# Altium schematic symbol library AM3352.SchLib: 2 symbols
Pins are listed as number, name and electrical type; pins without a type are passive.

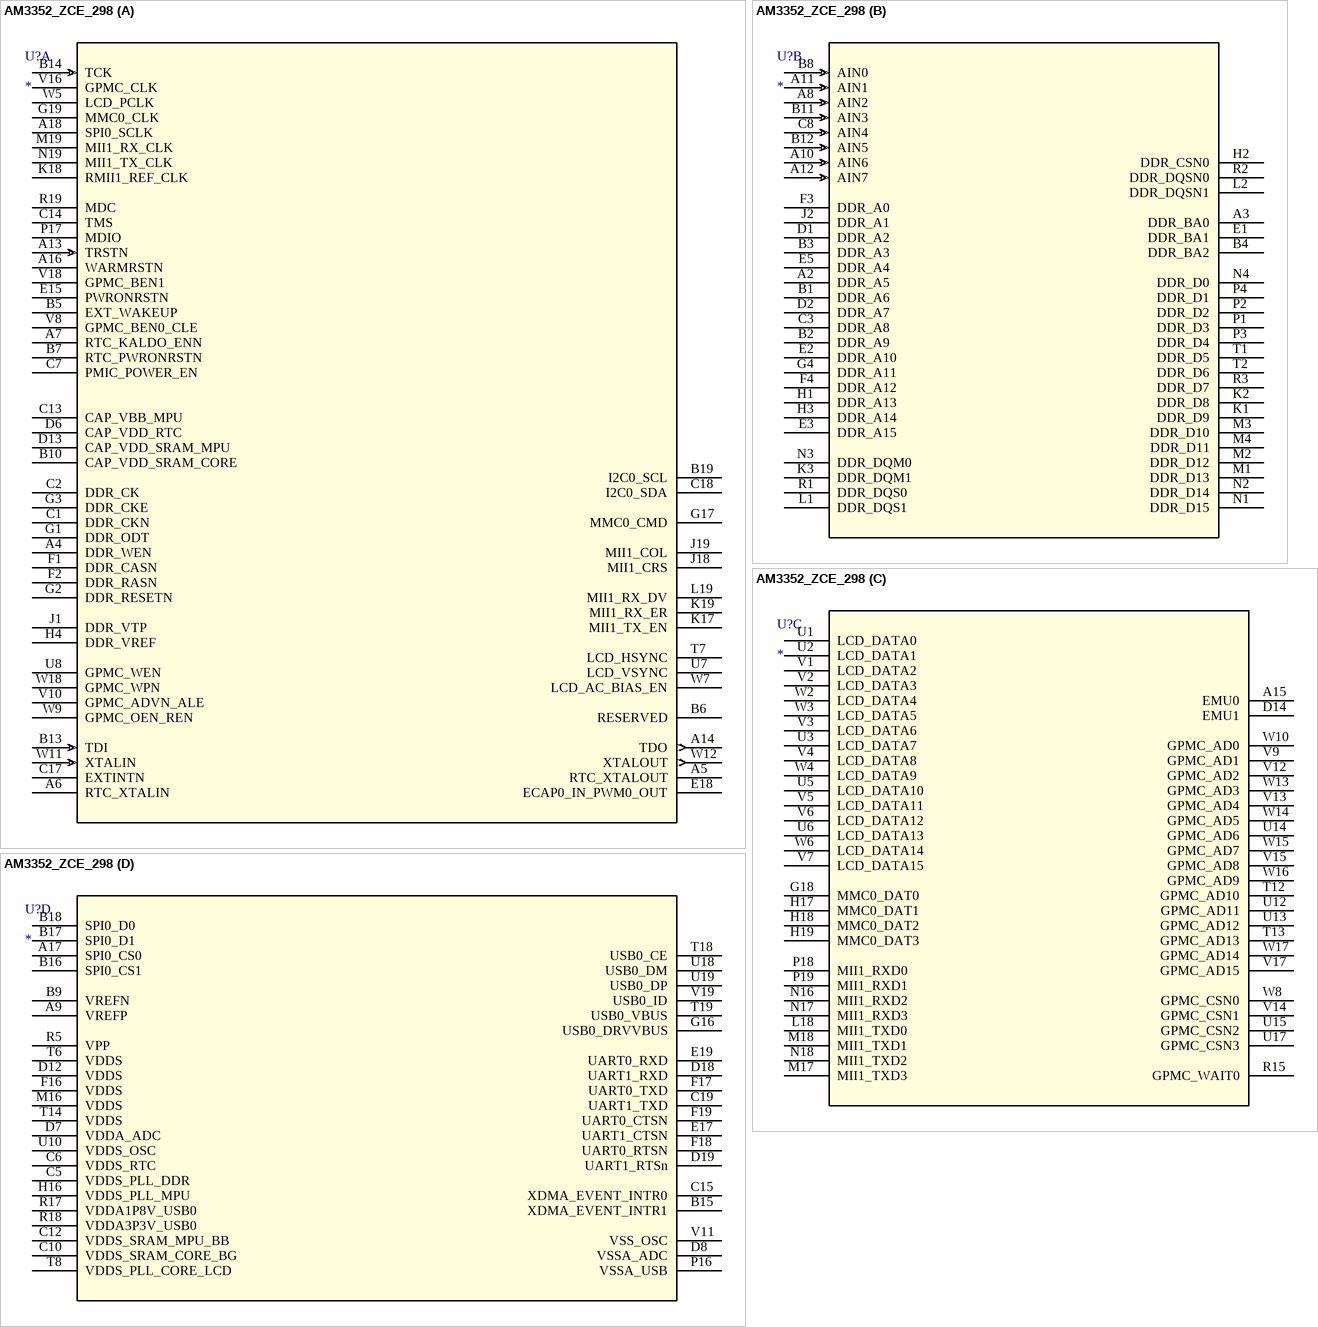
[diagram p0: symbol AM3352_ZCE_298]

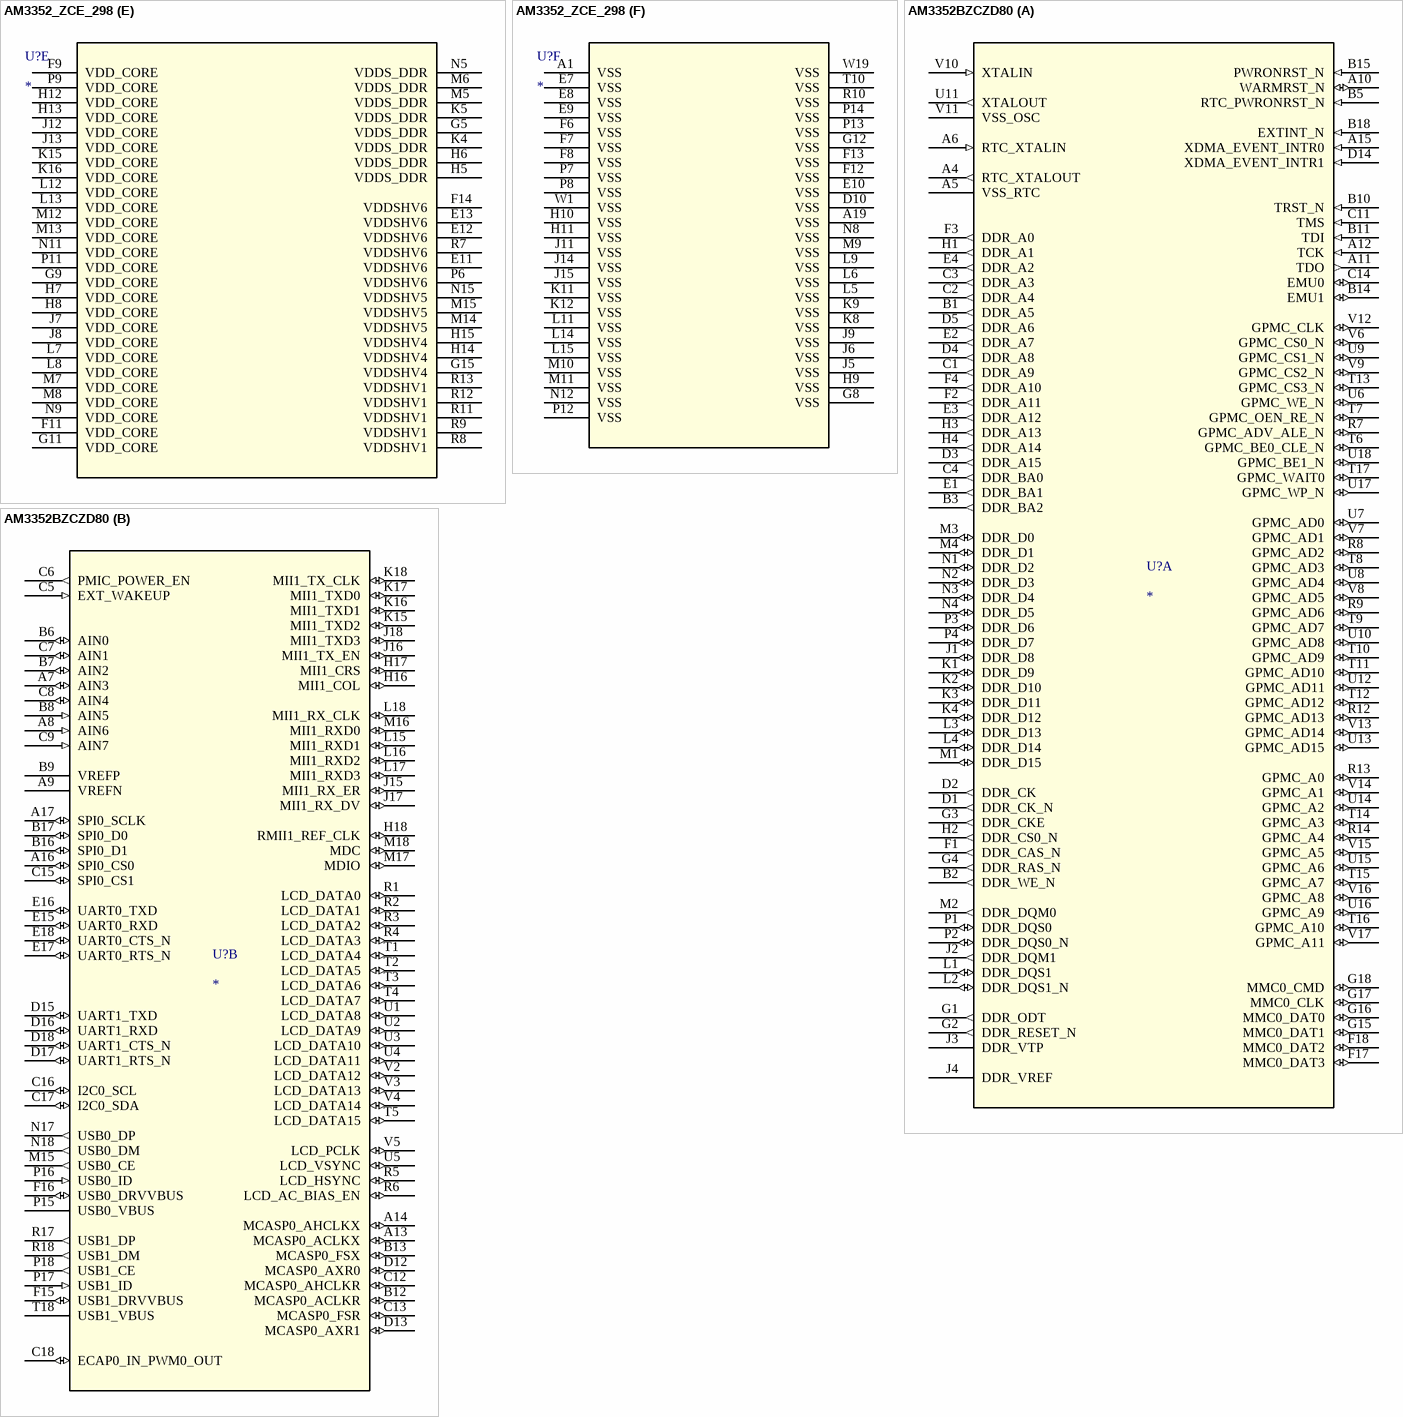
[diagram p1: symbols AM3352_ZCE_298 to AM3352BZCZD80]

## AM3352_ZCE_298
designator U?
AM335x Sitara™ Processors; GENERIC_PART_NUMBER: AM3352; Manufacturer: Texas Instruments; PACKAGE_DESIGNATOR: ZCE; PIN_COUNT: 298; FAMILY_NAME: ARM335x ARM Cortex-A8; INDUSTRY_STD_PKG_TYPE: NFBGA; Datasheet_URL: http://www.ti.com/lit/gpn/AM3352; RefDes: RefDes; Type: Type; Value: Value
footprint ZCE298
part A pins: A4 DDR_WEN, A5 RTC_XTALOUT, A6 RTC_XTALIN, A7 RTC_KALDO_ENN, A13 TRSTN (in), A14 TDO (out), A16 WARMRSTN, A18 SPI0_SCLK, B5 EXT_WAKEUP, B6 RESERVED, B7 RTC_PWRONRSTN, B10 CAP_VDD_SRAM_CORE, B13 TDI (in), B14 TCK (in), B19 I2C0_SCL, C1 DDR_CKN, C2 DDR_CK, C7 PMIC_POWER_EN, C13 CAP_VBB_MPU, C14 TMS, C17 EXTINTN, C18 I2C0_SDA, D6 CAP_VDD_RTC, D13 CAP_VDD_SRAM_MPU, E15 PWRONRSTN, E18 ECAP0_IN_PWM0_OUT, F1 DDR_CASN, F2 DDR_RASN, G1 DDR_ODT, G2 DDR_RESETN, G3 DDR_CKE, G17 MMC0_CMD, G19 MMC0_CLK, H4 DDR_VREF, J1 DDR_VTP, J18 MII1_CRS, J19 MII1_COL, K17 MII1_TX_EN, K18 RMII1_REF_CLK, K19 MII1_RX_ER, L19 MII1_RX_DV, M19 MII1_RX_CLK, N19 MII1_TX_CLK, P17 MDIO, R19 MDC, T7 LCD_HSYNC, U7 LCD_VSYNC, U8 GPMC_WEN, V8 GPMC_BEN0_CLE, V10 GPMC_ADVN_ALE, V16 GPMC_CLK, V18 GPMC_BEN1, W5 LCD_PCLK, W7 LCD_AC_BIAS_EN, W9 GPMC_OEN_REN, W11 XTALIN (in), W12 XTALOUT (out), W18 GPMC_WPN
part B pins: A2 DDR_A5, A3 DDR_BA0, A8 AIN2 (in), A10 AIN6 (in), A11 AIN1 (in), A12 AIN7 (in), B1 DDR_A6, B2 DDR_A9, B3 DDR_A3, B4 DDR_BA2, B8 AIN0 (in), B11 AIN3 (in), B12 AIN5 (in), C3 DDR_A8, C8 AIN4 (in), D1 DDR_A2, D2 DDR_A7, E1 DDR_BA1, E2 DDR_A10, E3 DDR_A15, E5 DDR_A4, F3 DDR_A0, F4 DDR_A12, G4 DDR_A11, H1 DDR_A13, H2 DDR_CSN0, H3 DDR_A14, J2 DDR_A1, K1 DDR_D9, K2 DDR_D8, K3 DDR_DQM1, L1 DDR_DQS1, L2 DDR_DQSN1, M1 DDR_D13, M2 DDR_D12, M3 DDR_D10, M4 DDR_D11, N1 DDR_D15, N2 DDR_D14, N3 DDR_DQM0, N4 DDR_D0, P1 DDR_D3, P2 DDR_D2, P3 DDR_D4, P4 DDR_D1, R1 DDR_DQS0, R2 DDR_DQSN0, R3 DDR_D7, T1 DDR_D5, T2 DDR_D6
part C pins: A15 EMU0, D14 EMU1, G18 MMC0_DAT0, H17 MMC0_DAT1, H18 MMC0_DAT2, H19 MMC0_DAT3, L18 MII1_TXD0, M17 MII1_TXD3, M18 MII1_TXD1, N16 MII1_RXD2, N17 MII1_RXD3, N18 MII1_TXD2, P18 MII1_RXD0, P19 MII1_RXD1, R15 GPMC_WAIT0, T12 GPMC_AD10, T13 GPMC_AD13, U1 LCD_DATA0, U2 LCD_DATA1, U3 LCD_DATA7, U5 LCD_DATA10, U6 LCD_DATA13, U12 GPMC_AD11, U13 GPMC_AD12, U14 GPMC_AD6, U15 GPMC_CSN2, U17 GPMC_CSN3, V1 LCD_DATA2, V2 LCD_DATA3, V3 LCD_DATA6, V4 LCD_DATA8, V5 LCD_DATA11, V6 LCD_DATA12, V7 LCD_DATA15, V9 GPMC_AD1, V12 GPMC_AD2, V13 GPMC_AD4, V14 GPMC_CSN1, V15 GPMC_AD8, V17 GPMC_AD15, W2 LCD_DATA4, W3 LCD_DATA5, W4 LCD_DATA9, W6 LCD_DATA14, W8 GPMC_CSN0, W10 GPMC_AD0, W13 GPMC_AD3, W14 GPMC_AD5, W15 GPMC_AD7, W16 GPMC_AD9, W17 GPMC_AD14
part D pins: A9 VREFP (power), A17 SPI0_CS0, B9 VREFN (power), B15 XDMA_EVENT_INTR1, B16 SPI0_CS1, B17 SPI0_D1, B18 SPI0_D0, C5 VDDS_PLL_DDR (power), C6 VDDS_RTC (power), C10 VDDS_SRAM_CORE_BG (power), C12 VDDS_SRAM_MPU_BB (power), C15 XDMA_EVENT_INTR0, C19 UART1_TXD, D7 VDDA_ADC (power), D8 VSSA_ADC (power), D12 VDDS (power), D18 UART1_RXD, D19 UART1_RTSn, E17 UART1_CTSN, E19 UART0_RXD, F16 VDDS (power), F17 UART0_TXD, F18 UART0_RTSN, F19 UART0_CTSN, G16 USB0_DRVVBUS, H16 VDDS_PLL_MPU (power), M16 VDDS (power), P16 VSSA_USB (power), R5 VPP (power), R17 VDDA1P8V_USB0 (power), R18 VDDA3P3V_USB0 (power), T6 VDDS (power), T8 VDDS_PLL_CORE_LCD (power), T14 VDDS (power), T18 USB0_CE, T19 USB0_VBUS, U10 VDDS_OSC (power), U18 USB0_DM, U19 USB0_DP, V11 VSS_OSC (power), V19 USB0_ID
part E pins: E11 VDDSHV6 (power), E12 VDDSHV6 (power), E13 VDDSHV6 (power), F9 VDD_CORE (power), F11 VDD_CORE (power), F14 VDDSHV6 (power), G5 VDDS_DDR (power), G9 VDD_CORE (power), G11 VDD_CORE (power), G15 VDDSHV4 (power), H5 VDDS_DDR (power), H6 VDDS_DDR (power), H7 VDD_CORE (power), H8 VDD_CORE (power), H12 VDD_CORE (power), H13 VDD_CORE (power), H14 VDDSHV4 (power), H15 VDDSHV4 (power), J7 VDD_CORE (power), J8 VDD_CORE (power), J12 VDD_CORE (power), J13 VDD_CORE (power), K4 VDDS_DDR (power), K5 VDDS_DDR (power), K15 VDD_CORE (power), K16 VDD_CORE (power), L7 VDD_CORE (power), L8 VDD_CORE (power), L12 VDD_CORE (power), L13 VDD_CORE (power), M5 VDDS_DDR (power), M6 VDDS_DDR (power), M7 VDD_CORE (power), M8 VDD_CORE (power), M12 VDD_CORE (power), M13 VDD_CORE (power), M14 VDDSHV5 (power), M15 VDDSHV5 (power), N5 VDDS_DDR (power), N9 VDD_CORE (power), N11 VDD_CORE (power), N15 VDDSHV5 (power), P6 VDDSHV6 (power), P9 VDD_CORE (power), P11 VDD_CORE (power), R7 VDDSHV6 (power), R8 VDDSHV1 (power), R9 VDDSHV1 (power), R11 VDDSHV1 (power), R12 VDDSHV1 (power), R13 VDDSHV1 (power)
part F pins: A1 VSS (power), A19 VSS (power), D10 VSS (power), E7 VSS (power), E8 VSS (power), E9 VSS (power), E10 VSS (power), F6 VSS (power), F7 VSS (power), F8 VSS (power), F12 VSS (power), F13 VSS (power), G8 VSS (power), G12 VSS (power), H9 VSS (power), H10 VSS (power), H11 VSS (power), J5 VSS (power), J6 VSS (power), J9 VSS (power), J11 VSS (power), J14 VSS (power), J15 VSS (power), K8 VSS (power), K9 VSS (power), K11 VSS (power), K12 VSS (power), L5 VSS (power), L6 VSS (power), L9 VSS (power), L11 VSS (power), L14 VSS (power), L15 VSS (power), M9 VSS (power), M10 VSS (power), M11 VSS (power), N8 VSS (power), N12 VSS (power), P7 VSS (power), P8 VSS (power), P12 VSS (power), P13 VSS (power), P14 VSS (power), R10 VSS (power), T10 VSS (power), W1 VSS (power), W19 VSS (power)

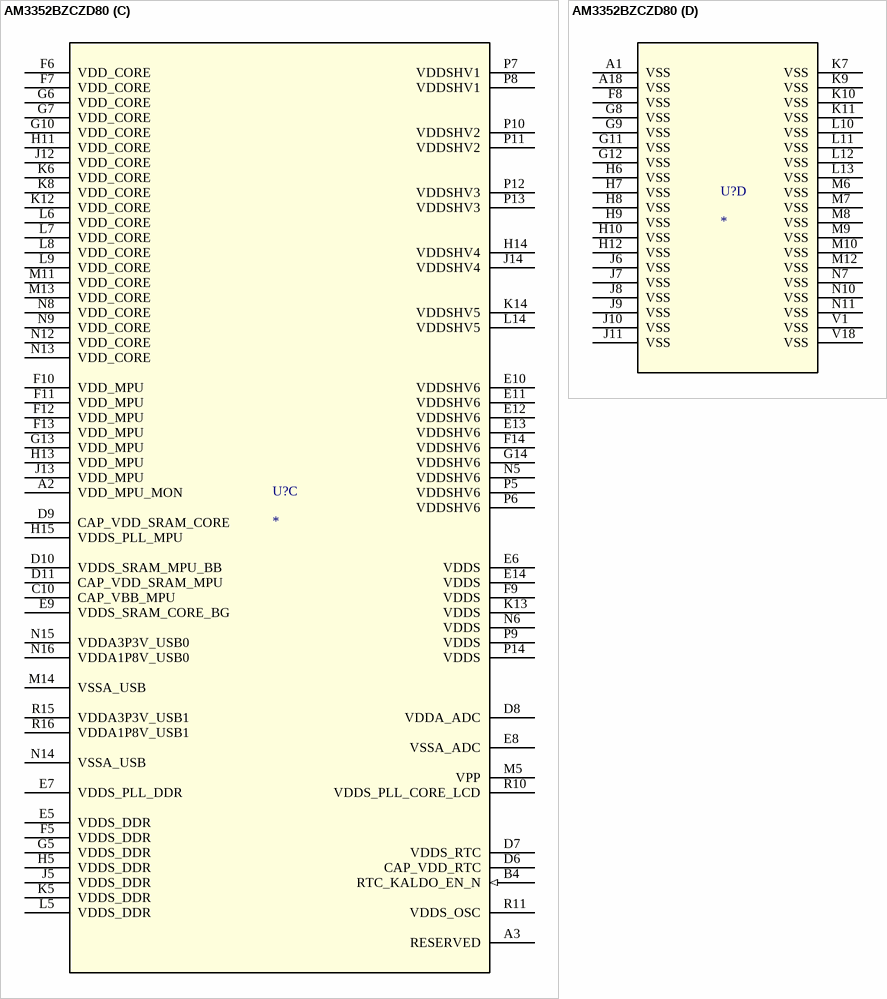
[diagram p2: symbol AM3352BZCZD80]

## AM3352BZCZD80
designator U?
AM335x Sitara™ Processors; PartNumber: AM3352BZCZD80; Manufacturer: Texas Instruments; RefDes: RefDes; TYPE: TYPE; Value: Value
footprint ZCZ0324A
part A pins: A4 RTC_XTALOUT (out), A5 VSS_RTC (power), A6 RTC_XTALIN (in), A10 WARMRST_N (io), A11 TDO (out), A12 TCK (in), A15 XDMA_EVENT_INTR0 (in), B1 DDR_A5 (out), B2 DDR_WE_N (out), B3 DDR_BA2 (out), B5 RTC_PWRONRST_N (in), B10 TRST_N (in), B11 TDI (in), B14 EMU1 (io), B15 PWRONRST_N (in), B18 EXTINT_N (in), C1 DDR_A9 (out), C2 DDR_A4 (out), C3 DDR_A3 (out), C4 DDR_BA0 (out), C11 TMS (in), C14 EMU0 (io), D1 DDR_CK_N (out), D2 DDR_CK (out), D3 DDR_A15 (out), D4 DDR_A8 (out), D5 DDR_A6 (out), D14 XDMA_EVENT_INTR1 (in), E1 DDR_BA1 (out), E2 DDR_A7 (out), E3 DDR_A12 (out), E4 DDR_A2 (out), F1 DDR_CAS_N (out), F2 DDR_A11 (out), F3 DDR_A0 (out), F4 DDR_A10 (out), F17 MMC0_DAT3 (io), F18 MMC0_DAT2 (io), G1 DDR_ODT (out), G2 DDR_RESET_N (out), G3 DDR_CKE (out), G4 DDR_RAS_N (out), G15 MMC0_DAT1 (io), G16 MMC0_DAT0 (io), G17 MMC0_CLK (io), G18 MMC0_CMD (io), H1 DDR_A1 (out), H2 DDR_CS0_N (out), H3 DDR_A13 (out), H4 DDR_A14 (out), J1 DDR_D8 (io), J2 DDR_DQM1 (out), J3 DDR_VTP (power), J4 DDR_VREF (power), K1 DDR_D9 (io), K2 DDR_D10 (io), K3 DDR_D11 (io), K4 DDR_D12 (io), L1 DDR_DQS1 (io), L2 DDR_DQS1_N (io), L3 DDR_D13 (io), L4 DDR_D14 (io), M1 DDR_D15 (io), M2 DDR_DQM0 (out), M3 DDR_D0 (io), M4 DDR_D1 (io), N1 DDR_D2 (io), N2 DDR_D3 (io), N3 DDR_D4 (io), N4 DDR_D5 (io), P1 DDR_DQS0 (io), P2 DDR_DQS0_N (io), P3 DDR_D6 (io), P4 DDR_D7 (io), R7 GPMC_ADV_ALE_N (io), R8 GPMC_AD2 (io), R9 GPMC_AD6 (io), R12 GPMC_AD13 (io), R13 GPMC_A0 (io), R14 GPMC_A4 (io), T6 GPMC_BE0_CLE_N (io), T7 GPMC_OEN_RE_N (io), T8 GPMC_AD3 (io), T9 GPMC_AD7 (io), T10 GPMC_AD9 (io), T11 GPMC_AD10 (io), T12 GPMC_AD12 (io), T13 GPMC_CS3_N (io), T14 GPMC_A3 (io), T15 GPMC_A7 (io), T16 GPMC_A10 (io), T17 GPMC_WAIT0 (io), U6 GPMC_WE_N (io), U7 GPMC_AD0 (io), U8 GPMC_AD4 (io), U9 GPMC_CS1_N (io), U10 GPMC_AD8 (io), U11 XTALOUT (out), U12 GPMC_AD11 (io), U13 GPMC_AD15 (io), U14 GPMC_A2 (io), U15 GPMC_A6 (io), U16 GPMC_A9 (io), U17 GPMC_WP_N (io), U18 GPMC_BE1_N (io), V6 GPMC_CS0_N (io), V7 GPMC_AD1 (io), V8 GPMC_AD5 (io), V9 GPMC_CS2_N (io), V10 XTALIN (in), V11 VSS_OSC (power), V12 GPMC_CLK (io), V13 GPMC_AD14 (io), V14 GPMC_A1 (io), V15 GPMC_A5 (io), V16 GPMC_A8 (io), V17 GPMC_A11 (io)
part B pins: A7 AIN3 (io), A8 AIN6 (in), A9 VREFN (power), A13 MCASP0_ACLKX (io), A14 MCASP0_AHCLKX (io), A16 SPI0_CS0 (io), A17 SPI0_SCLK (io), B6 AIN0 (io), B7 AIN2 (io), B8 AIN5 (in), B9 VREFP (power), B12 MCASP0_ACLKR (io), B13 MCASP0_FSX (io), B16 SPI0_D1 (io), B17 SPI0_D0 (io), C5 EXT_WAKEUP (in), C6 PMIC_POWER_EN (out), C7 AIN1 (io), C8 AIN4 (io), C9 AIN7 (in), C12 MCASP0_AHCLKR (io), C13 MCASP0_FSR (io), C15 SPI0_CS1 (io), C16 I2C0_SCL (io), C17 I2C0_SDA (io), C18 ECAP0_IN_PWM0_OUT (io), D12 MCASP0_AXR0 (io), D13 MCASP0_AXR1 (io), D15 UART1_TXD (io), D16 UART1_RXD (io), D17 UART1_RTS_N (io), D18 UART1_CTS_N (io), E15 UART0_RXD (io), E16 UART0_TXD (io), E17 UART0_RTS_N (io), E18 UART0_CTS_N (io), F15 USB1_DRVVBUS (io), F16 USB0_DRVVBUS (io), H16 MII1_COL (io), H17 MII1_CRS (io), H18 RMII1_REF_CLK (io), J15 MII1_RX_ER (io), J16 MII1_TX_EN (io), J17 MII1_RX_DV (io), J18 MII1_TXD3 (io), K15 MII1_TXD2 (io), K16 MII1_TXD1 (io), K17 MII1_TXD0 (io), K18 MII1_TX_CLK (io), L15 MII1_RXD1 (io), L16 MII1_RXD2 (io), L17 MII1_RXD3 (io), L18 MII1_RX_CLK (io), M15 USB0_CE (out), M16 MII1_RXD0 (io), M17 MDIO (io), M18 MDC (io), N17 USB0_DP (out), N18 USB0_DM (out), P15 USB0_VBUS (power), P16 USB0_ID (in), P17 USB1_ID (in), P18 USB1_CE (out), R1 LCD_DATA0 (io), R2 LCD_DATA1 (io), R3 LCD_DATA2 (io), R4 LCD_DATA3 (io), R5 LCD_HSYNC (io), R6 LCD_AC_BIAS_EN (io), R17 USB1_DP (out), R18 USB1_DM (out), T1 LCD_DATA4 (io), T2 LCD_DATA5 (io), T3 LCD_DATA6 (io), T4 LCD_DATA7 (io), T5 LCD_DATA15 (io), T18 USB1_VBUS (power), U1 LCD_DATA8 (io), U2 LCD_DATA9 (io), U3 LCD_DATA10 (io), U4 LCD_DATA11 (io), U5 LCD_VSYNC (io), V2 LCD_DATA12 (io), V3 LCD_DATA13 (io), V4 LCD_DATA14 (io), V5 LCD_PCLK (io)
part C pins: A2 VDD_MPU_MON (power), A3 RESERVED, B4 RTC_KALDO_EN_N (in), C10 CAP_VBB_MPU, D6 CAP_VDD_RTC, D7 VDDS_RTC (power), D8 VDDA_ADC (power), D9 CAP_VDD_SRAM_CORE, D10 VDDS_SRAM_MPU_BB (power), D11 CAP_VDD_SRAM_MPU, E5 VDDS_DDR (power), E6 VDDS (power), E7 VDDS_PLL_DDR (power), E8 VSSA_ADC (power), E9 VDDS_SRAM_CORE_BG (power), E10 VDDSHV6 (power), E11 VDDSHV6 (power), E12 VDDSHV6 (power), E13 VDDSHV6 (power), E14 VDDS (power), F5 VDDS_DDR (power), F6 VDD_CORE (power), F7 VDD_CORE (power), F9 VDDS (power), F10 VDD_MPU (power), F11 VDD_MPU (power), F12 VDD_MPU (power), F13 VDD_MPU (power), F14 VDDSHV6 (power), G5 VDDS_DDR (power), G6 VDD_CORE (power), G7 VDD_CORE (power), G10 VDD_CORE (power), G13 VDD_MPU (power), G14 VDDSHV6 (power), H5 VDDS_DDR (power), H11 VDD_CORE (power), H13 VDD_MPU (power), H14 VDDSHV4 (power), H15 VDDS_PLL_MPU (power), J5 VDDS_DDR (power), J12 VDD_CORE (power), J13 VDD_MPU (power), J14 VDDSHV4 (power), K5 VDDS_DDR (power), K6 VDD_CORE (power), K8 VDD_CORE (power), K12 VDD_CORE (power), K13 VDDS (power), K14 VDDSHV5 (power), L5 VDDS_DDR (power), L6 VDD_CORE (power), L7 VDD_CORE (power), L8 VDD_CORE (power), L9 VDD_CORE (power), L14 VDDSHV5 (power), M5 VPP (power), M11 VDD_CORE (power), M13 VDD_CORE (power), M14 VSSA_USB (power), N5 VDDSHV6 (power), N6 VDDS (power), N8 VDD_CORE (power), N9 VDD_CORE (power), N12 VDD_CORE (power), N13 VDD_CORE (power), N14 VSSA_USB (power), N15 VDDA3P3V_USB0 (power), N16 VDDA1P8V_USB0 (power), P5 VDDSHV6 (power), P6 VDDSHV6 (power), P7 VDDSHV1 (power), P8 VDDSHV1 (power), P9 VDDS (power), P10 VDDSHV2 (power), P11 VDDSHV2 (power), P12 VDDSHV3 (power), P13 VDDSHV3 (power), P14 VDDS (power), R10 VDDS_PLL_CORE_LCD (power), R11 VDDS_OSC (power), R15 VDDA3P3V_USB1 (power), R16 VDDA1P8V_USB1 (power)
part D pins: A1 VSS (power), A18 VSS (power), F8 VSS (power), G8 VSS (power), G9 VSS (power), G11 VSS (power), G12 VSS (power), H6 VSS (power), H7 VSS (power), H8 VSS (power), H9 VSS (power), H10 VSS (power), H12 VSS (power), J6 VSS (power), J7 VSS (power), J8 VSS (power), J9 VSS (power), J10 VSS (power), J11 VSS (power), K7 VSS (power), K9 VSS (power), K10 VSS (power), K11 VSS (power), L10 VSS (power), L11 VSS (power), L12 VSS (power), L13 VSS (power), M6 VSS (power), M7 VSS (power), M8 VSS (power), M9 VSS (power), M10 VSS (power), M12 VSS (power), N7 VSS (power), N10 VSS (power), N11 VSS (power), V1 VSS (power), V18 VSS (power)